# Altium footprint library Single_Hand_YK.PcbLib: 35 footprints (part 2 of 3)
Each footprint in its own frame and in the unit in brackets; x right, y up, seen from the top. Pads: shape width x height; smd on the part's side, far side on the other; paste and mask are expansions set on the pad; w line width, h text height; cw(c..) or ccw(c..) is an arc to the next point about the centre after c.
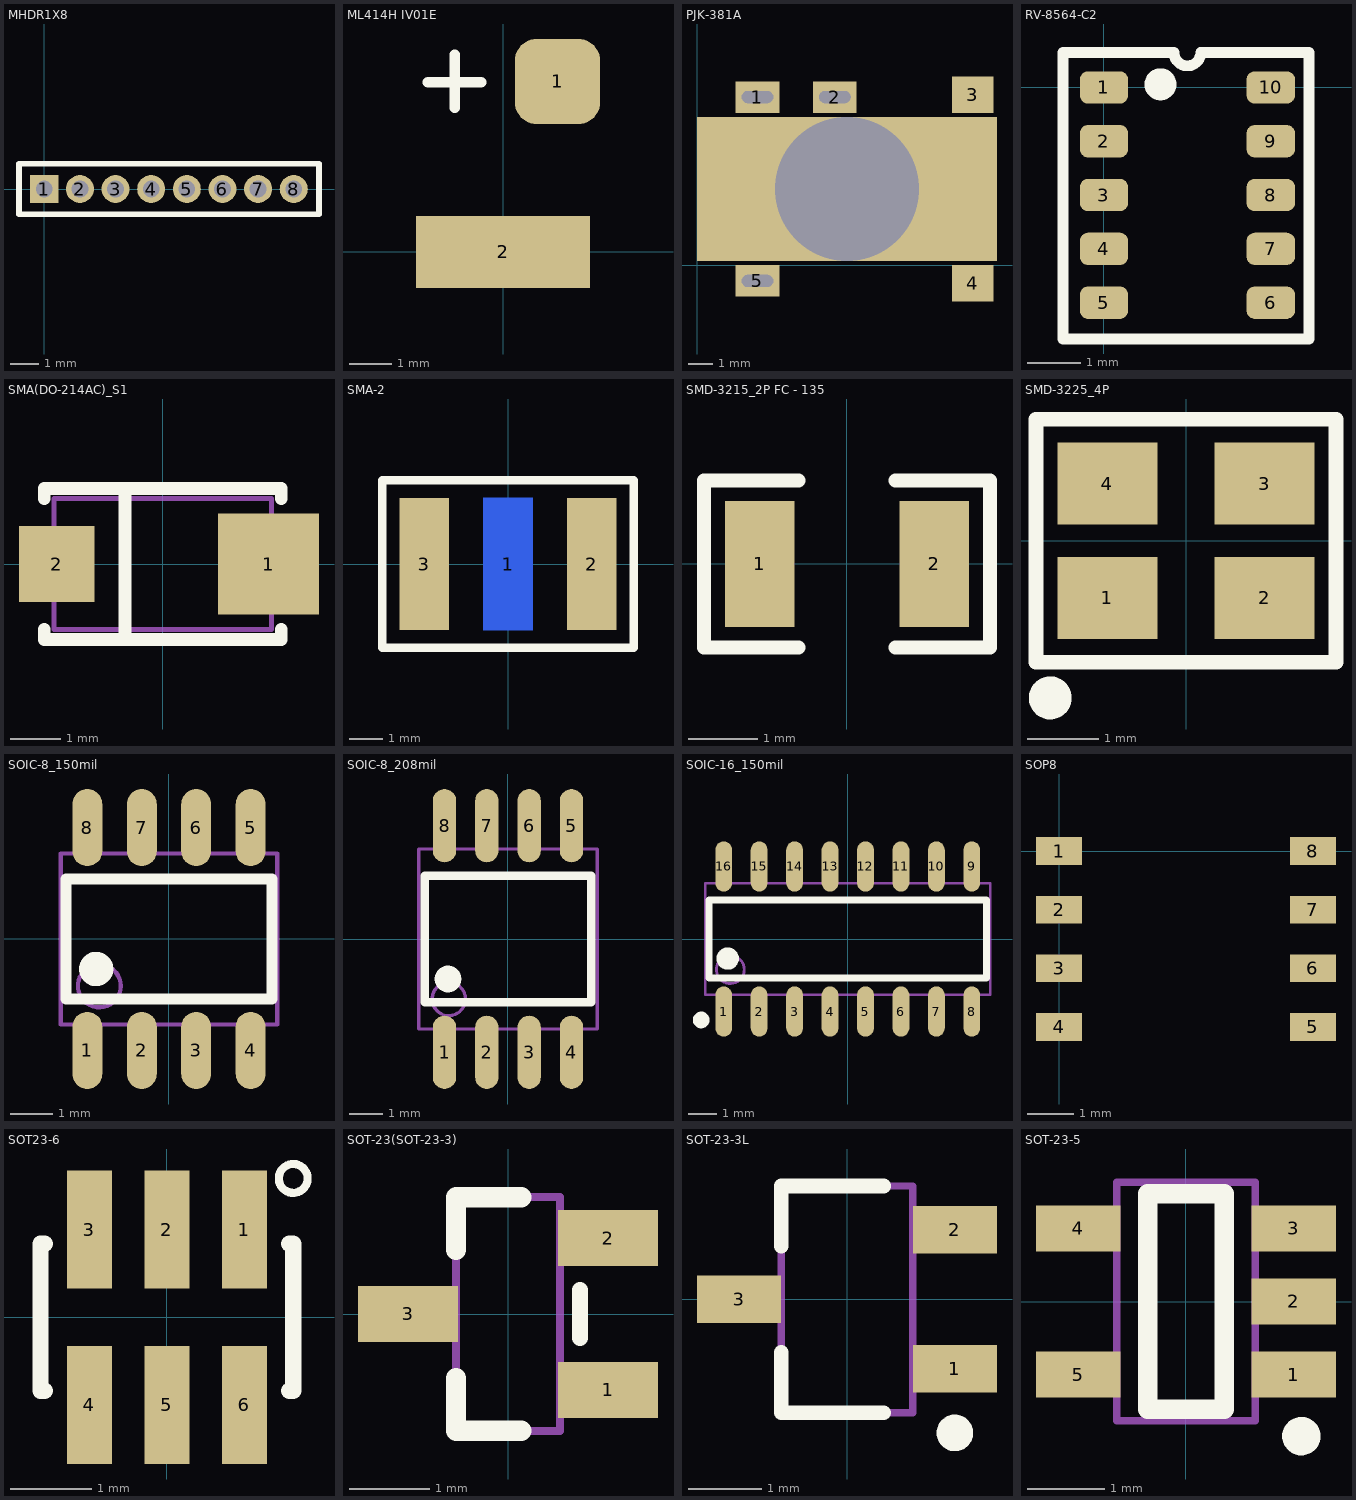
[diagram p1: the footprints below, top view; thin cyan lines are the x and y axes]

## MHDR1X8 [mm] "Connector; Header; 8 Position"
pads (8):
  rect 1x1 hole 0.6: 1(0,0)
  round 1 hole 0.6: 2(1.27,0) 3(2.54,0) 4(3.81,0) 5(5.08,0) 6(6.35,0) 7(7.62,0) 8(8.89,0)
Top Overlay:
  lines w0.2: -0.9,-0.9 -0.9,0.9 9.79,0.9 9.79,-0.9 -0.9,-0.9
3D body "mhdr8.STEP": height 10.15, standoff 0, extent -1.27,-1.27 10.16,1.27

## ML414H IV01E [mm] "3.1V可充电纽扣电池/1mAh"
pads (2):
  rrect50% 2x2 smd: 1(1.28,4.01)
  rect 4.1x1.7 smd: 2(0,0)
Top Overlay:
  lines w0.254: -1.77,3.99 -0.52,3.99 ; -1.14,3.39 -1.14,4.64

## PJK-381A [mm]
pads (6):
  rect 1.8x1.3 hole 0.5 slot 1.3 at 0 deg: 1(2.5,6.95) 2(5.7,6.95) 5(2.5,-0.65)
  rect 1.7x1.5 smd: 3(11.4,7.05) 4(11.4,-0.75)
  rect 12.4x5.96 hole 5.96 square unplated: ""(6.2,3.15)

## RV-8564-C2 [mm]
pads (10):
  rrect50% 0.9x0.6 smd: 1(0,0) 2(0,-1) 3(0,-2) 4(0,-3) 5(0,-4) 6(3.1,-4) 7(3.1,-3) 8(3.1,-2) 9(3.1,-1) 10(3.1,0)
Top Overlay:
  lines w0.2: 1.275,0.65 -0.762,0.65 -0.762,-4.675 3.81,-4.675 3.81,0.65 1.8,0.65 cw(c1.55,0.65) 1.3,0.65
  lines w0.3: 1.195,0.032 cw(c1.05,0.058) 1.197,0.049

## SMA(DO-214AC)_S1 [mm]
pads (2):
  rect 2x2 smd: 1(2.1,0)
  rect 1.5x1.5 smd: 2(-2.1,0)
Top Overlay:
  lines w0.254: -2.35,-1.3 -2.35,-1.5 2.35,-1.5 2.35,-1.3 ; -2.35,1.3 -2.35,1.5 2.35,1.5 2.35,1.3 ; -0.75,-1.5 -0.75,1.5
Mechanical 13:
  lines w0.1: -2.16,-1.3 -2.16,1.3 2.16,1.3 2.16,-1.3 -2.16,-1.3

## SMA-2 [mm]
pads (3):
  rect 1.5x4 smd far side: 1(0,0)
  rect 1.5x4 all layers, no hole: 2(2.54,0) 3(-2.54,0)
Top Overlay:
  lines w0.254: -3.81,-2.54 -3.81,-2.286 -3.81,2.54 3.81,2.54 3.81,-2.54 -3.81,-2.54
3D body "User Library-620-SMA-02-112-TGG SMA Female for PCB edge Mount.step": height 3.2, standoff -2.85, extent -3,-11.886 3,1.714

## SMD-3215_2P FC - 135 [mm]
pads (2):
  rect 1x1.8 smd: 1(-1.25,0) 2(1.25,0)
Top Overlay:
  lines w0.2: -0.695,-1.2 -2.05,-1.2 -2.05,1.2 -0.695,1.2 ; 0.695,-1.2 2.05,-1.2 2.05,1.2 0.695,1.2

## SMD-3225_4P [mm]
pads (4):
  rect 1.4x1.15 smd: 1(-1.1,-0.8) 2(1.1,-0.8) 3(1.1,0.8) 4(-1.1,0.8)
Top Overlay:
  circle w0.3: c-1.9,-2.2 r0.15
  lines w0.203: -2.1,-1.7 -2.1,1.7 2.1,1.7 2.1,-1.7 -2.1,-1.7
3D body "User Library-3225-1.STEP": height 0.61, standoff 0, extent -1.6,-1.25 1.6,1.25

## SOIC-8_150mil [mm]
pads (8):
  oval 0.7x1.8 smd: 1(-1.905,-2.6) 2(-0.635,-2.6) 3(0.635,-2.6) 4(1.905,-2.6) 5(1.905,2.6) 6(0.635,2.6) 7(-0.635,2.6) 8(-1.905,2.6)
Top Overlay:
  circle w0.4: c-1.7,-0.7 r0.2
  lines w0.254: -2.4,-1.4 -2.4,1.4 2.4,1.4 2.4,-1.4 -2.4,-1.4
Mechanical 13:
  circle w0.1: c-1.625,-1.095 r0.5
  lines w0.1: -2.525,-1.995 -2.525,1.995 2.525,1.995 2.525,-1.995 -2.525,-1.995

## SOIC-8_208mil [mm]
pads (8):
  oval 0.7x2.2 smd: 1(-1.905,-3.4) 2(-0.635,-3.4) 3(0.635,-3.4) 4(1.905,-3.4) 5(1.905,3.4) 6(0.635,3.4) 7(-0.635,3.4) 8(-1.905,3.4)
Top Overlay:
  circle w0.4: c-1.8,-1.2 r0.2
  lines w0.254: -2.5,-1.9 -2.5,1.9 2.5,1.9 2.5,-1.9 -2.5,-1.9
Mechanical 13:
  circle w0.1: c-1.775,-1.8 r0.5
  lines w0.1: -2.675,-2.7 -2.675,2.7 2.675,2.7 2.675,-2.7 -2.675,-2.7

## SOIC-16_150mil [mm]
pads (16):
  oval 0.6x1.8 smd: 1(-4.445,-2.6) 2(-3.175,-2.6) 3(-1.905,-2.6) 4(-0.635,-2.6) 5(0.635,-2.6) 6(1.905,-2.6) 7(3.175,-2.6) 8(4.445,-2.6) 9(4.445,2.6) 10(3.175,2.6) 11(1.905,2.6) 12(0.635,2.6) 13(-0.635,2.6) 14(-1.905,2.6) 15(-3.175,2.6) 16(-4.445,2.6)
Top Overlay:
  circle w0.3: c-5.25,-2.9 r0.15
  circle w0.4: c-4.3,-0.7 r0.2
  lines w0.254: -4.975,-1.4 4.975,-1.4 4.975,1.4 -4.975,1.4 -4.975,-1.4
Mechanical 13:
  circle w0.1: c-4.205,-1.095 r0.5
  lines w0.1: -5.105,-1.995 5.105,-1.995 5.105,1.995 -5.105,1.995 -5.105,-1.995

## SOP8 [mm]
pads (8):
  rect 1x0.6 smd: 1(0,0) 2(0,-1.27) 3(0,-2.54) 4(0,-3.81) 5(5.5,-3.81) 6(5.5,-2.54) 7(5.5,-1.27) 8(5.5,0)

## SOT23-6 [mm] "SOT-23/SC-74A; 5 Leads; Body 3.1 x 3 mm, inc. leads (LxW max)"
height 1.45
pads (6):
  rect 0.55x1.45 smd: 1(0.95,1.075) 2(0,1.075) 3(-0.95,1.075) 4(-0.95,-1.075) 5(0,-1.075) 6(0.95,-1.075)
Top Overlay:
  circle w0.1: c1.549,1.702 r0.177
  lines w0.2: -1.5,-0.9 -1.55,-0.9 -1.55,0.9 -1.5,0.9 ; 1.5,-0.9 1.55,-0.9 1.55,0.9 1.5,0.9
3D body "User Library-SOT-23-6.STEP": height 1.08, standoff -0.01, extent -1.397,-1.194 1.397,1.232

## SOT-23(SOT-23-3) [mm]
pads (3):
  rect 1.25x0.7 smd: 1(1.25,-0.95) 2(1.25,0.95) 3(-1.25,0)
Top Overlay:
  lines w0.2: 0.9,-0.3 0.9,0.3
  lines w0.254: -0.65,-0.8 -0.65,-1.46 0.165,-1.46 ; 0.165,1.46 -0.65,1.46 ; -0.65,0.8 -0.65,1.46 ; -0.65,0.8 -0.65,1.46 ; -0.65,0.8 -0.65,1.46
Mechanical 13:
  lines w0.1: -0.65,-1.46 -0.65,1.46 ; -0.65,-1.46 0.65,-1.46 ; -0.65,-1.46 0.65,-1.46 ; -0.65,-1.46 -0.65,1.46 ; -0.65,-1.46 0.65,-1.46 ; -0.65,-1.46 -0.65,1.46 ; -0.65,1.46 0.65,1.46 ; -0.65,1.46 0.65,1.46 ; -0.65,1.46 0.65,1.46 ; 0.65,-1.46 0.65,1.46 ; 0.65,-1.46 0.65,1.46 ; 0.65,-1.46 0.65,1.46
3D body "SOT-23.step": height 1.3, standoff 0, extent -1.5,-1.5 1.5,1.5

## SOT-23-3L [mm] "http://www.aosmd.com/res/packaging_information/SOT-23-3L.pdf"
height 1.25
pads (3):
  rect 1.15x0.65 smd: 1(1.475,-0.95) 2(1.475,0.95) 3(-1.475,0)
Top Overlay:
  circle w0.25: c1.475,-1.825 r0.125
  lines w0.2: -0.9,-0.725 -0.9,-1.55 0.5,-1.55 ; -0.9,0.725 -0.9,1.55 0.5,1.55
Mechanical 13:
  lines w0.1: -0.9,-1.55 -0.9,1.55 0.9,1.55 0.9,-1.55 -0.9,-1.55
3D body: height 1.25, standoff 0, extent -0.9,-1.55 0.9,1.55

## SOT-23-5 [mm]
pads (5):
  rect 1.1x0.6 smd: 1(1.4,-0.95) 2(1.4,0) 3(1.4,0.95) 4(-1.4,0.95) 5(-1.4,-0.95)
Top Overlay:
  circle w0.25: c1.5,-1.75 r0.125
  lines w0.254: -0.5,-1.4 -0.5,1.4 0.5,1.4 0.5,-1.4 -0.5,-1.4
Mechanical 13:
  lines w0.1: -0.9,-1.55 0.9,-1.55 0.9,1.55 -0.9,1.55 -0.9,-1.55